# Altium footprint library ON_Semi_Battery_Monitors.PcbLib: 1 footprints
Each footprint in its own frame and in the unit in brackets; x right, y up, seen from the top. Pads: shape width x height; smd on the part's side, far side on the other; paste and mask are expansions set on the pad; w line width, h text height; cw(c..) or ccw(c..) is an arc to the next point about the centre after c.
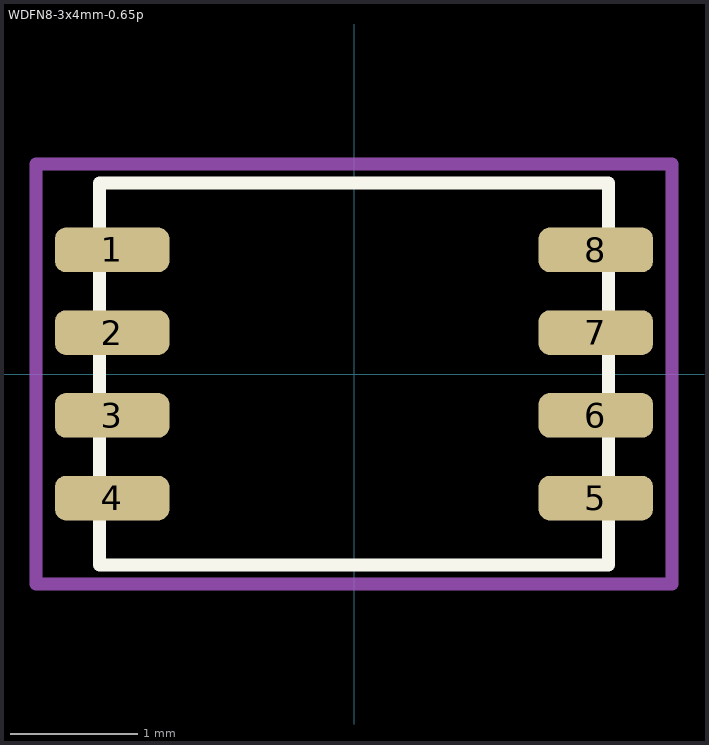
[diagram p0: the footprint, top view; thin cyan lines are the x and y axes]

## WDFN8-3x4mm-0.65p [mm] "WDFN8, 3x4mm, pitch 0.65mm"
pads (8):
  rrect50% 0.9x0.35 smd: 1(-1.9,0.975) 2(-1.9,0.325) 3(-1.9,-0.325) 4(-1.9,-0.975) 5(1.9,-0.975) 6(1.9,-0.325) 7(1.9,0.325) 8(1.9,0.975)
Top Overlay:
  lines w0.102: -2,-1.5 -2,1.5 2,1.5 2,-1.5 -2,-1.5
  text "." at -2.413,1.524 h0.1
Mechanical 15:
  lines w0.102: -2.5,-1.651 -2.5,1.651 2.5,1.651 2.5,-1.651 -2.5,-1.651
3D body: height 0.8, standoff 0, extent -2.032,-1.524 2.032,1.524